# EAGLE library part DRIVE_BOARD (library Bits_library_eagle 9x)
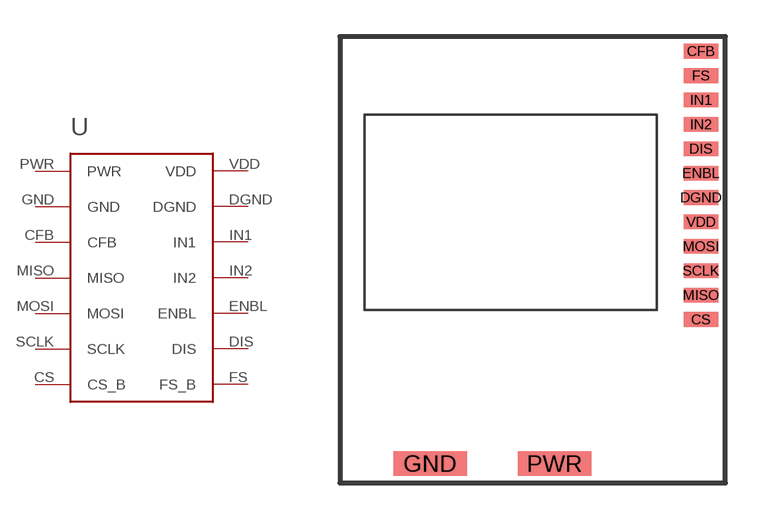
[diagram p64: symbol with the pads of DRIVE_BOARD; footprint DRIVE_BOARD]

Designator prefix -

## DRIVE_BOARD  [DRIVE_BOARD]
CFB  CFB
CS  CS_B
DGND  DGND
DIS  DIS
ENBL  ENBL
FS  FS_B
GND  GND
IN1  IN1
IN2  IN2
MISO  MISO
MOSI  MOSI
PWR  PWR
SCLK  SCLK
VDD  VDD

## Footprint DRIVE_BOARD (pad centres in mm)
smd 1.4 x 0.6: CFB 5.8,6.6; CS 5.8,-4.4; DGND 5.8,0.6; DIS 5.8,2.6; ENBL 5.8,1.6; FS 5.8,5.6; IN1 5.8,4.6; IN2 5.8,3.6; MISO 5.8,-3.4; MOSI 5.8,-1.4; SCLK 5.8,-2.4; VDD 5.8,-0.4
smd 3 x 1: GND -5.3,-10.3; PWR -0.2,-10.3